# Altium footprint library 67298-3090.PcbLib: 1 footprints
Each footprint in its own frame and in the unit in brackets; x right, y up, seen from the top. Pads: shape width x height; smd on the part's side, far side on the other; paste and mask are expansions set on the pad; w line width, h text height; cw(c..) or ccw(c..) is an arc to the next point about the centre after c.
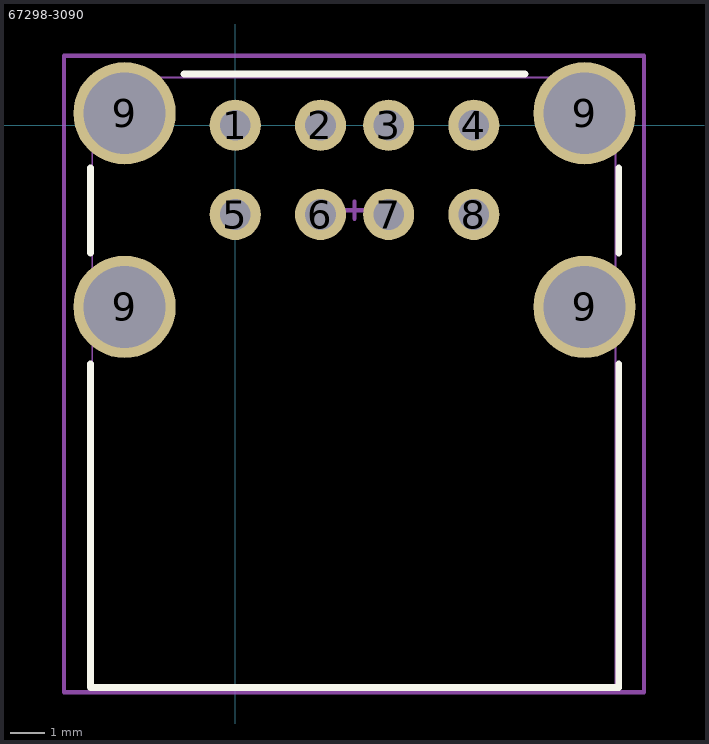
[diagram p0: the footprint, top view; thin cyan lines are the x and y axes]

## 67298-3090 [mm]
pads (12):
  round 1.5 hole 0.9: 1(0,0) 2(2.5,0) 3(4.5,0) 4(7,0) 5(0,-2.62) 6(2.5,-2.62) 7(4.5,-2.62) 8(7,-2.62)
  round 3 hole 2.4: 9(-3.247,-5.33) 9(-3.247,0.35) 9(10.247,-5.33) 9(10.247,0.35)
Top Overlay:
  lines w0.2: -4.25,-7 -4.25,-16.5 11.25,-16.5 11.25,-7 ; -4.25,-3.75 -4.25,-1.25 ; -1.5,1.5 8.5,1.5 ; 11.25,-3.75 11.25,-1.25
Mechanical 13:
  lines w0.051: -4.197,-16.455 -4.197,1.401 11.153,1.401 11.153,-16.455 -4.197,-16.455
Mechanical 15:
  lines w0.127: 3.246,-2.49 3.754,-2.49 ; 3.5,-2.744 3.5,-2.236 ; -5.025,-16.633 -5.025,2.036 11.993,2.036 11.993,-16.633 -5.025,-16.633
Mechanical 17:
  text "'.Designator'" at -1.143,-0.127 h0.2
  text "'.Designator'" at -2.125,-9.875 h1
3D body "672983090.stp": height 16.17, standoff -2.98, extent -4.178,-16.459 11.146,1.401